# EAGLE library part ADF4007 (library QuantumOptics)
ADF4007, Analog Devices, 7.5GHz PLL with programmable divider. http://www.analog.com/UploadedFiles/Data_Sheets/ADF4007.pdf.
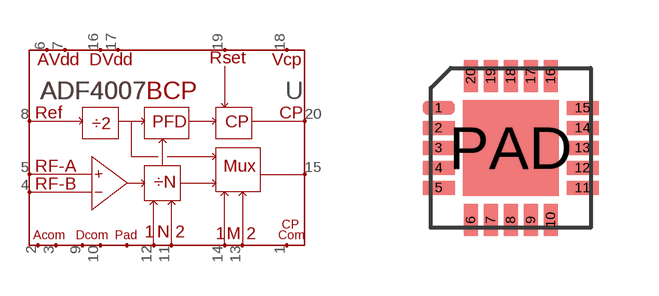
[diagram p75: symbol with the pads of LFCSP-20; footprint LFCSP-20]

Designator prefix U

## ADF4007  [LFCSP-20]
1  CPCOM
2  ACOM1
3  ACOM2
4  RF-B
5  RF-A
6  AVDD1
7  AVDD2
8  REFIN
9  DCOM1
10  DCOM2
11  N2
12  N1
13  M2
14  M1
15  MUXOUT
16  DVDD1
17  DVDD2
18  VP
19  RSET
20  CP
PAD  PAD

## Footprint LFCSP-20 (pad centres in mm)
LFCSP-20, Lead Frame Chip Scale Package with 20 pins. NOTE: Try to connect centre pad to bottom ground plane with at least 4 vias! Use grid of 0.5mm (or 0.0125"). Based on Analog Devices ADF4007 <http://www.analog.com/UploadedFiles/Data_Sheets/ADF4007.pdf>, (http://www.analog.com/UploadedFiles/Data_Sheets/ADF4007.pdf).
smd 0.8 x 0.35: 1 0.2,0; 2 0.2,-0.5; 3 0.2,-1; 4 0.2,-1.5; 5 0.2,-2; 11 3.8,-2; 12 3.8,-1.5; 13 3.8,-1; 14 3.8,-0.5; 15 3.8,0
smd 0.35 x 0.8: 6 1,-2.8; 7 1.5,-2.8; 8 2,-2.8; 9 2.5,-2.8; 10 3,-2.8; 16 3,0.8; 17 2.5,0.8; 18 2,0.8; 19 1.5,0.8; 20 1,0.8
smd 2.4 x 2.4: PAD 2,-1